# Altium schematic symbol library Capacitors.SchLib: 10 symbols
Pins are listed as number, name and electrical type; pins without a type are passive.

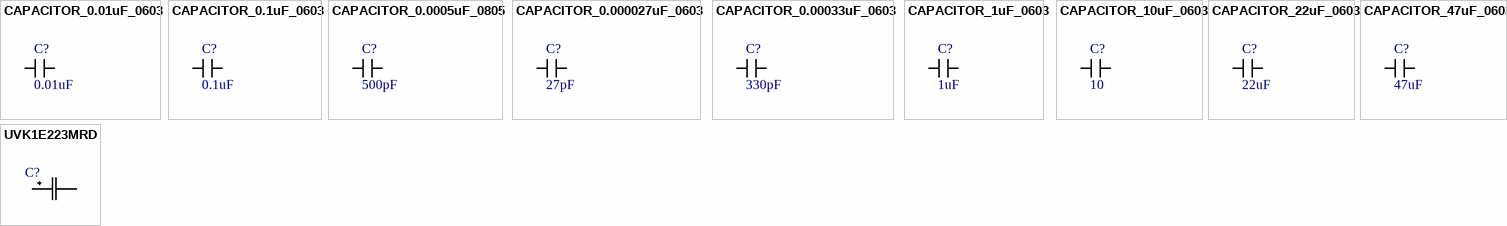
[diagram p0: symbols CAPACITOR_0.01uF_0603 to UVK1E223MRD]

## CAPACITOR_0.01uF_0603
designator C?, comment value 0.01uF  (hidden comment: 10nF Ceramic 6.3V)
Cap 10nF 6.3V +/-20% / Ceramic 0603; Tolerance: +/- 10%; Made By: Flip B; ComponentLink1Description: Datsheet; ComponentLink1URL: https://www.mouser.com/datasheet/2/212/KEM_C1002_X7R_SMD-1102033.pdf; Voltage: 6.3V; Supplier 1: Mouser; Supplier Part Number 1: 80-C0603C103K9R
footprint CAPACITOR_0603 (CAPACITOR 0603)
pins: 1, 2

## CAPACITOR_0.1uF_0603
designator C?, comment value 0.1uF  (hidden comment: 100nF Ceramic 6.3V)
Cap 100nF 6.3V +/-10% / Ceramic 0603; Made By: Flip B; ComponentLink1Description: Datsheet; ComponentLink1URL: https://www.mouser.com/datasheet/2/212/KEM_C1002_X7R_SMD-1102033.pdf; Tolerance: +/- 10%; Voltage: 6.3V; Supplier 1: Digi-Key; Supplier Part Number 1: 399-15351-1-ND
footprint CAPACITOR_0603 (CAPACITOR 0603)
pins: 1, 2

## CAPACITOR_0.0005uF_0805
designator C?, comment value 500pF  (hidden comment: 500pF Ceramic 50V)
Cap 500pF 50V +/-2% / Ceramic 0805; Voltage: 50; Made By: Flip B; ComponentLink1Description: Datsheet; ComponentLink1URL: https://datasheets.avx.com/C0GNP0-Dielectric.pdf; Tolerance: +/- 2%; Supplier 1: Digi-Key; Supplier Part Number 1: 478-10532-1-ND
footprint CAPACITOR_0805 (CAPACITOR 0805)
pins: 1, 2

## CAPACITOR_0.000027uF_0603
designator C?, comment value 27pF  (hidden comment: 27pF Ceramic 50V)
Cap 27pF 50V +/-5% / Ceramic 0603; Made By: Flip B; ComponentLink1Description: Datsheet; ComponentLink1URL: https://www.mouser.com/datasheet/2/212/KEM_C1002_X7R_SMD-1102033.pdf; Tolerance: +/- 5%; Voltage: 50V; Supplier 1: Digi-Key; Supplier Part Number 1: 311-1063-1-ND
footprint CAPACITOR_0603 (CAPACITOR 0603)
pins: 1, 2

## CAPACITOR_0.00033uF_0603
designator C?, comment value 330pF  (hidden comment: 330pF Ceramic 16V)
Cap 330pF 16V +/-5% / Ceramic 0603; Made By: Flip B; ComponentLink1Description: Datsheet; ComponentLink1URL: https://www.we-online.de/katalog/datasheet/885012006026.pdf; Tolerance: +/- 5%; Voltage: 16V; Supplier 1: Digi-Key; Supplier Part Number 1: 732-7769-1-ND
footprint CAPACITOR_0603 (CAPACITOR 0603)
pins: 1, 2

## CAPACITOR_1uF_0603
designator C?, comment value 1uF  (hidden comment: 1uF Ceramic 16V)
Cap 1uF 16V +/-10% / Ceramic 0603; Made By: Flip B; Tolerance: +/- 10%; Voltage: 16V; Supplier 1: Digi-Key; Supplier Part Number 1: 399-7847-1-ND
footprint CAPACITOR_0603 (CAPACITOR 0603)
pins: 1, 2

## CAPACITOR_10uF_0603
designator C?, comment Value (uF): 10  (hidden comment: 10uF Ceramic 6.3V)
Cap 10uF 6.3V +/-20% / Ceramic 0603; Made By: Flip B; ComponentLink1Description: Digikey; ComponentLink1URL: https://www.digikey.com/en/products/detail/samsung-electro-mechanics/CL10A106MQ8NNNC/3886777; Supplier 1: Digi-Key; Supplier Part Number 1: 1276-1119-1-ND; Tolerance: +/- 20%; Voltage: 6.3V
footprint CAPACITOR_0603 (CAPACITOR 0603)
pins: 1, 2

## CAPACITOR_22uF_0603
designator C?, comment value 22uF  (hidden comment: 22uF Ceramic)
Cap 22uF 6.3V +/-20% / Ceramic 0603; Made By: Flip B; Tolerance: +/- 20%; Voltage: 6.3V; Supplier 1: Digi-Key; Supplier Part Number 1: 445-8028-1-ND
footprint CAPACITOR_0603 (CAPACITOR 0603)
pins: 1, 2

## CAPACITOR_47uF_0603
designator C?, comment value 47uF  (hidden comment: 47uF Ceramic 6.3V)
Cap 47uF 6.3V +/-20% / Ceramic 0603; Made By: Flip B; ComponentLink1Description: Datsheet; ComponentLink1URL: https://www.mouser.com/datasheet/2/212/KEM_C1002_X7R_SMD-1102033.pdf; Tolerance: +/- 20%; Voltage: 6.3V; Supplier 1: Digi-Key; Supplier Part Number 1: 490-13247-1-ND
footprint CAPACITOR_0603 (CAPACITOR 0603)
pins: 1, 2

## UVK1E223MRD
designator C?
Electrolytic Capacitor; Voltage Range: 6.3-450V; Made By: Cole Davis; Value: 22000uF; Supplier 1: Digi-Key; Supplier Part Number 1: 493-12405-ND; Verified By: Name
footprint UVK1E223MRD
pins: 1, 2